# EAGLE library part MC14585BDG (library On Semiconductor)
4-Bit Magnitude Comparator
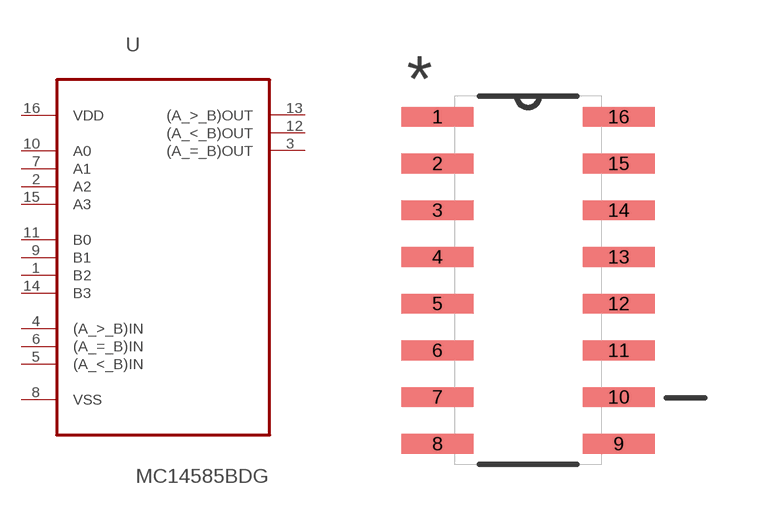
[diagram p309: symbol with the pads of SOIC127P600X175-16N; footprint SOIC127P600X175-16N]

Designator prefix U

## MC14585BDG (MPN: MC14585BDG; OC_FARNELL: 1191839; OC_NEWARK: 71J5507; PACKAGE: SOIC-16; SUPPLIER: ON SEMICONDUCTOR)  [SOIC127P600X175-16N]
1  B2  in
2  A2  in
3  (A_=_B)OUT  out
4  (A_>_B)IN  in
5  (A_<_B)IN  in
6  (A_=_B)IN  in
7  A1  in
8  VSS  pas
9  B1  in
10  A0  in
11  B0  in
12  (A_<_B)OUT  out
13  (A_>_B)OUT  out
14  B3  in
15  A3  in
16  VDD  pwr

## Footprint SOIC127P600X175-16N (pad centres in mm)
smd 1.956 x 0.533: 1 -2.464,4.445; 2 -2.464,3.175; 3 -2.464,1.905; 4 -2.464,0.635; 5 -2.464,-0.635; 6 -2.464,-1.905; 7 -2.464,-3.175; 8 -2.464,-4.445; 9 2.464,-4.445; 10 2.464,-3.175; 11 2.464,-1.905; 12 2.464,-0.635; 13 2.464,0.635; 14 2.464,1.905; 15 2.464,3.175; 16 2.464,4.445